# EAGLE library part MCD_0.5/3-G1-2.5 (library Traficon)
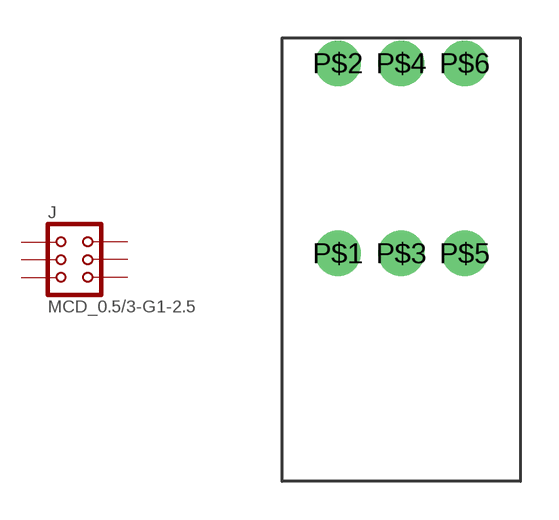
[diagram p153: symbol with the pads of MCD_0.5/3-G1-2.5; footprint MCD_0.5/3-G1-2.5]

Designator prefix J

## MCD_0.5/3-G1-2.5  [MCD_0.5/3-G1-2.5]
P$1  P$1  pas
P$2  P$2  pas
P$3  P$3  pas
P$4  P$4  pas
P$5  P$5  pas
P$6  P$6  pas

## Footprint MCD_0.5/3-G1-2.5 (pad centres in mm)
drill 1.2 round: P$1 -2.88,0.11; P$2 -2.88,7.61; P$3 -0.38,0.11; P$4 -0.38,7.61; P$5 2.12,0.11; P$6 2.12,7.61